# Altium integrated library DTM13-12PA.IntLib: 1 symbol
Pins are listed as number, name and electrical type; pins without a type are passive.

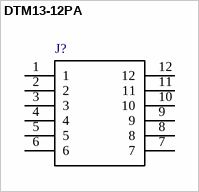
[diagram p0: symbol DTM13-12PA]

## DTM13-12PA
designator J?  (value not drawn)
/ 12 way DTM13 A key Receptacle with PCB mount and 90 degree molded pins. Sealable, with centerline pitch .165 inch/4 millimeters. Gray. /; MF: TE Connectivity; TE_purchase_URL: https://www.te.com/usa-en/product-DTM13-12PA.html?te_bu=Cor&te_type=disp&te_campaign=seda_glo_cor-seda-global-disp-prtnr-fy19-seda-model-bom-cta_sma-317_1&elqCampaignId=32493; Price: None; Package: None; SnapEDA_Link: https://www.snapeda.com/parts/DTM13-12PA/TE%20Connectivity%20Deutsch%20Connectors/view-part/?ref=snap; Availability: Unavailable; EU_RoHS_Compliance: Compliant; MP: DTM13-12PA; Value: *
footprint *TE_DTM13-12PA
pins: 1, 2, 3, 4, 5, 6, 7, 8, 9, 10, 11, 12